# Altium integrated library Fuses.IntLib: 27 symbols
Pins are listed as number, name and electrical type; pins without a type are passive.

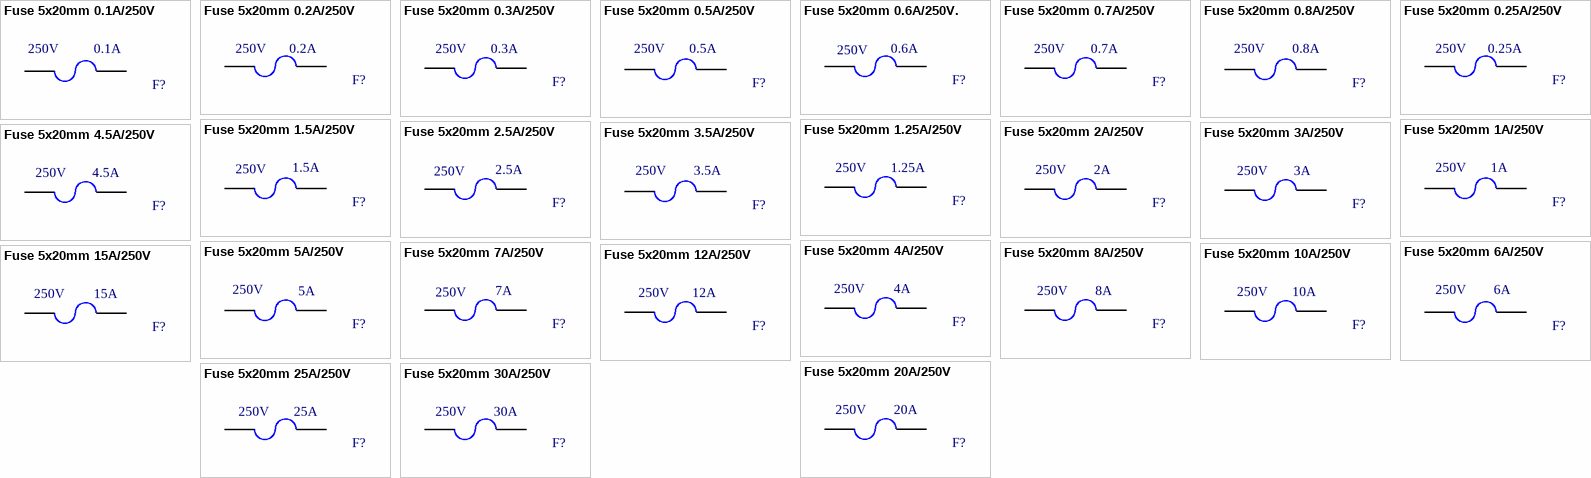
[diagram p0: symbols Fuse 5x20mm 0.1A/250V to Fuse 5x20mm 30A/250V]

## Fuse 5x20mm 0.1A/250V
designator F?, comment Voltage: 250V  Current: 0.1A  (hidden comment: Fuse 5x20mm)
FUSE GLASS 0.1A 250VAC 5X20MM WITH HOLDER
footprint Fuse 0.1A/250V (FUSE GLASS 0.1A 250VAC 5X20MM)
pins: 1 (power), 2 (power)

## Fuse 5x20mm 0.2A/250V
designator F?, comment Voltage: 250V  Current: 0.2A  (hidden comment: Fuse 5x20mm)
FUSE GLASS 0.2A 250VAC 5X20MM WITH HOLDER
footprint Fuse 0.2A/250V (FUSE GLASS 0.2A 250VAC 5X20MM)
pins: 1 (power), 2 (power)

## Fuse 5x20mm 0.3A/250V
designator F?, comment Voltage: 250V  Current: 0.3A  (hidden comment: Fuse 5x20mm)
FUSE GLASS 0.3A 250VAC 5X20MM WITH HOLDER
footprint Fuse 0.3A/250V (FUSE GLASS 0.3A 250VAC 5X20MM)
pins: 1 (power), 2 (power)

## Fuse 5x20mm 0.5A/250V
designator F?, comment Voltage: 250V  Current: 0.5A  (hidden comment: Fuse 5x20mm)
FUSE GLASS 0.5A 250VAC 5X20MM WITH HOLDER
footprint Fuse 0.5A/250V (FUSE GLASS 0.5A 250VAC 5X20MM)
pins: 1 (power), 2 (power)

## Fuse 5x20mm 0.6A/250V.
designator F?, comment Voltage: 250V  Current: 0.6A  (hidden comment: Fuse 5x20mm)
FUSE GLASS 0.6A 250VAC 5X20MM WITH HOLDER
footprint Fuse 0.6A/250V (FUSE GLASS 0.6A 250VAC 5X20MM)
pins: 1 (power), 2 (power)

## Fuse 5x20mm 0.7A/250V
designator F?, comment Voltage: 250V  Current: 0.7A  (hidden comment: Fuse 5x20mm)
FUSE GLASS 0.7A 250VAC 5X20MM WITH HOLDER
footprint Fuse 0.7A/250V (FUSE GLASS 0.7A 250VAC 5X20MM)
pins: 1 (power), 2 (power)

## Fuse 5x20mm 0.8A/250V
designator F?, comment Voltage: 250V  Current: 0.8A  (hidden comment: Fuse 5x20mm)
FUSE GLASS 0.8A 250VAC 5X20MM WITH HOLDER
footprint Fuse 0.8A/250V (FUSE GLASS 0.8A 250VAC 5X20MM)
pins: 1 (power), 2 (power)

## Fuse 5x20mm 0.25A/250V
designator F?, comment Current: 0.25A  Voltage: 250V  (hidden comment: Fuse 5x20mm)
FUSE GLASS 0.25A 250VAC 5X20MM WITH HOLDER
footprint Fuse 0.25A/250V (FUSE GLASS 0.25A 250VAC 5X20MM)
pins: 1 (power), 2 (power)

## Fuse 5x20mm 1.5A/250V
designator F?, comment Voltage: 250V  Current: 1.5A  (hidden comment: Fuse 5x20mm)
FUSE GLASS 1.5A 250VAC 5X20MM WITH HOLDER
footprint Fuse 1.5A/250V (FUSE GLASS 1.5A 250VAC 5X20MM)
pins: 1 (power), 2 (power)

## Fuse 5x20mm 1.25A/250V
designator F?, comment Voltage: 250V  Current: 1.25A  (hidden comment: Fuse 5x20mm)
FUSE GLASS 1.25A 250VAC 5X20MM WITH HOLDER
footprint Fuse 1.25A/250V (FUSE GLASS 1.25A 250VAC 5X20MM)
pins: 1 (power), 2 (power)

## Fuse 5x20mm 1A/250V
designator F?, comment Voltage: 250V  Current: 1A  (hidden comment: Fuse 5x20mm)
FUSE GLASS 1A 250VAC 5X20MM WITH HOLDER
footprint Fuse 1A/250V (FUSE GLASS 1A 250VAC 5X20MM)
pins: 1 (power), 2 (power)

## Fuse 5x20mm 2.5A/250V
designator F?, comment Voltage: 250V  Current: 2.5A  (hidden comment: Fuse 5x20mm)
FUSE GLASS 2.5A 250VAC 5X20MM WITH HOLDER
footprint Fuse 2.5A/250V (FUSE GLASS 2.5A 250VAC 5X20MM)
pins: 1 (power), 2 (power)

## Fuse 5x20mm 2A/250V
designator F?, comment Voltage: 250V  Current: 2A  (hidden comment: Fuse 5x20mm)
FUSE GLASS 2A 250VAC 5X20MM WITH HOLDER
footprint Fuse 2A/250V (FUSE GLASS 2A 250VAC 5X20MM)
pins: 1 (power), 2 (power)

## Fuse 5x20mm 3.5A/250V
designator F?, comment Voltage: 250V  Current: 3.5A  (hidden comment: Fuse 5x20mm)
FUSE GLASS 3.5A 250VAC 5X20MM WITH HOLDER
footprint Fuse 3.5A/250V (FUSE GLASS 3.5A 250VAC 5X20MM)
pins: 1 (power), 2 (power)

## Fuse 5x20mm 3A/250V
designator F?, comment Voltage: 250V  Current: 3A  (hidden comment: Fuse 5x20mm)
FUSE GLASS 3A 250VAC 5X20MM WITH HOLDER
footprint Fuse 3A/250V (FUSE GLASS 3A 250VAC 5X20MM)
pins: 1 (power), 2 (power)

## Fuse 5x20mm 4.5A/250V
designator F?, comment Voltage: 250V  Current: 4.5A  (hidden comment: Fuse 5x20mm)
FUSE GLASS 4.5A 250VAC 5X20MM WITH HOLDER
footprint Fuse 4.5A/250V (FUSE GLASS 4.5A 250VAC 5X20MM)
pins: 1 (power), 2 (power)

## Fuse 5x20mm 4A/250V
designator F?, comment Voltage: 250V  Current: 4A  (hidden comment: Fuse 5x20mm)
FUSE GLASS 4A 250VAC 5X20MM WITH HOLDER
footprint Fuse 4A/250V (FUSE GLASS 4A 250VAC 5X20MM)
pins: 1 (power), 2 (power)

## Fuse 5x20mm 5A/250V
designator F?, comment Voltage: 250V  Current: 5A  (hidden comment: Fuse 5x20mm)
FUSE GLASS 5A 250VAC 5X20MM WITH HOLDER
footprint Fuse 5A/250V (FUSE GLASS 5A 250VAC 5X20MM)
pins: 1 (power), 2 (power)

## Fuse 5x20mm 6A/250V
designator F?, comment Voltage: 250V  Current: 6A  (hidden comment: Fuse 5x20mm)
FUSE GLASS 6A 250VAC 5X20MM WITH HOLDER
footprint Fuse 6A/250V (FUSE GLASS 6A 250VAC 5X20MM)
pins: 1 (power), 2 (power)

## Fuse 5x20mm 7A/250V
designator F?, comment Voltage: 250V  Current: 7A  (hidden comment: Fuse 5x20mm)
FUSE GLASS 7A 250VAC 5X20MM WITH HOLDER
footprint Fuse 7A/250V (FUSE GLASS 7A 250VAC 5X20MM)
pins: 1 (power), 2 (power)

## Fuse 5x20mm 8A/250V
designator F?, comment Voltage: 250V  Current: 8A  (hidden comment: Fuse 5x20mm)
FUSE GLASS 8A 250VAC 5X20MM WITH HOLDER
footprint Fuse 8A/250V (FUSE GLASS 8A 250VAC 5X20MM)
pins: 1 (power), 2 (power)

## Fuse 5x20mm 10A/250V
designator F?, comment Voltage: 250V  Current: 10A  (hidden comment: Fuse 5x20mm)
FUSE GLASS 10A 250VAC 5X20MM WITH HOLDER
footprint Fuse 10A/250V (FUSE GLASS 10A 250VAC 5X20MM)
pins: 1 (power), 2 (power)

## Fuse 5x20mm 12A/250V
designator F?, comment Voltage: 250V  Current: 12A  (hidden comment: Fuse 5x20mm)
FUSE GLASS 12A 250VAC 5X20MM WITH HOLDER
footprint Fuse 12A/250V (FUSE GLASS 12A 250VAC 5X20MM)
pins: 1 (power), 2 (power)

## Fuse 5x20mm 15A/250V
designator F?, comment Voltage: 250V  Current: 15A  (hidden comment: Fuse 5x20mm)
FUSE GLASS 15A 250VAC 5X20MM WITH HOLDER
footprint Fuse 15A/250V (FUSE GLASS 15A 250VAC 5X20MM)
pins: 1 (power), 2 (power)

## Fuse 5x20mm 20A/250V
designator F?, comment Voltage: 250V  Current: 20A  (hidden comment: Fuse 5x20mm)
FUSE GLASS 20A 250VAC 5X20MM WITH HOLDER
footprint Fuse 20A/250V (FUSE GLASS 20A 250VAC 5X20MM)
pins: 1 (power), 2 (power)

## Fuse 5x20mm 25A/250V
designator F?, comment Voltage: 250V  Current: 25A  (hidden comment: Fuse 5x20mm)
FUSE GLASS 25A 250VAC 5X20MM WITH HOLDER
footprint Fuse 25A/250V (FUSE GLASS 25A 250VAC 5X20MM)
pins: 1 (power), 2 (power)

## Fuse 5x20mm 30A/250V
designator F?, comment Voltage: 250V  Current: 30A  (hidden comment: Fuse 5x20mm)
FUSE GLASS 30A 250VAC 5X20MM WITH HOLDER
footprint Fuse 30A/250V (FUSE GLASS 30A 250VAC 5X20MM)
pins: 1 (power), 2 (power)